# Altium schematic symbol library VDMG10A0.SchLib: 1 symbol
Pins are listed as number, name and electrical type; pins without a type are passive.

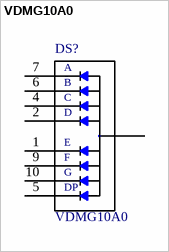
[diagram p0: symbol VDMG10A0]

## VDMG10A0
designator DS?
Display: LED; SMD; 7-segment; 10mm; green; 0.11-0.4mcd; anode; 0.39; MF: Vishay Semiconductor; SnapEDA_Link: https://www.snapeda.com/parts/VDMG10A0/Vishay%20Semiconductor%20Opto%20Division/view-part/?ref=snap; Availability: Unavailable; MP: VDMG10A0; Package: SMD-10 Vishay; Price: None; Value: *
footprint VDMG10A0 (Footprint not found)
pins: 1 E, 2 D, 3 ANODE, 4 C, 5 DP, 6 B, 7 A, 8 ANODE, 9 F, 10 G